# EAGLE library part SOCKET_SD_CARD_MICRO (library iSENSE_Data_Logger)
Micro SD Card Socket Various manufacturers.
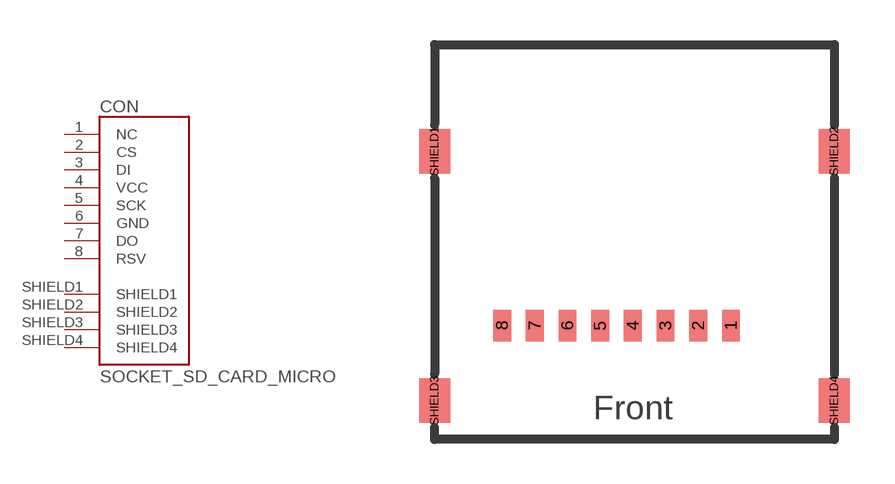
[diagram p1: symbol with the pads of SOCKET_SD_CARD_MICRO; footprint SOCKET_SD_CARD_MICRO]

Designator prefix CON

## SOCKET_SD_CARD_MICRO-AMP-101-00303-68 (PN: 101-00303-68)  [SOCKET_SD_CARD_MICRO]
1  NC  nc
2  CS  in
3  DI  in
4  VCC  pwr
5  SCK  in
6  GND  pwr
7  DO  out
8  RSV  nc
SHIELD1  SHIELD1  pas
SHIELD2  SHIELD2  pas
SHIELD3  SHIELD3  pas
SHIELD4  SHIELD4  pas

## Footprint SOCKET_SD_CARD_MICRO (pad centres in mm)
Amphenol Commercial Products #101-00303-68
smd 0.6 x 1.05: 1 9.97,-9.47; 2 8.87,-9.47; 3 7.77,-9.47; 4 6.67,-9.47; 5 5.57,-9.47; 6 4.47,-9.47; 7 3.37,-9.47; 8 2.27,-9.47
smd 1.05 x 1.5: SHIELD1 0,-3.6; SHIELD2 13.45,-3.6; SHIELD3 0,-12; SHIELD4 13.45,-12